# Altium footprint library SKF2.5-5V4.PcbLib: 3 footprints
Each footprint in its own frame and in the unit in brackets; x right, y up, seen from the top. Pads: shape width x height; smd on the part's side, far side on the other; paste and mask are expansions set on the pad; w line width, h text height; cw(c..) or ccw(c..) is an arc to the next point about the centre after c.
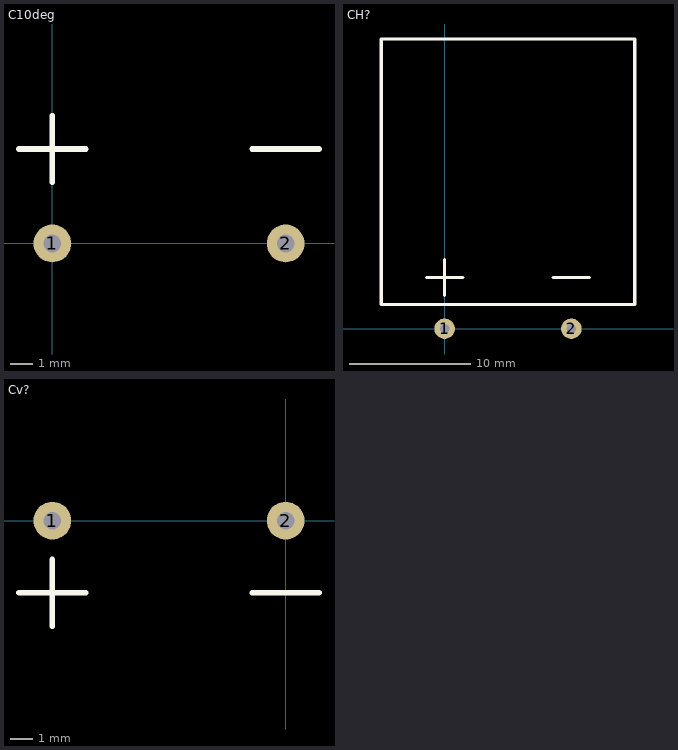
[diagram p0: the footprints below, top view; thin cyan lines are the x and y axes]

## C10deg [mm] "horizontal, 10deg rotation"
pads (2):
  round 1.7 hole 0.8: 1(0,0) 2(10.5,0)
Top Overlay:
  lines w0.254: -1.5,4.25 1.5,4.25 ; 0,2.75 0,5.75 ; 9,4.25 12,4.25
3D body "Supercap 2.5F 5.4V 10deg.STEP": height 13.99, standoff -4.5, extent -5.275,-2.85 15.725,24.847

## CH? [mm] "СКФ-2,5-5В4"
pads (2):
  round 1.7 hole 0.8: 1(0,0) 2(10.5,0)
Top Overlay:
  lines w0.254: -1.5,4.25 1.5,4.25 ; 0,2.75 0,5.75 ; 9,4.25 12,4.25 ; -5.25,2 15.75,2 15.75,24 -5.25,24 -5.25,2
3D body "Supercap 2.5F 5.4V.STEP": height 10.5, standoff -3.8, extent -5.25,-0.4 15.75,24

## Cv? [mm] "vertical orientation"
pads (2):
  round 1.7 hole 0.8: 1(-10.5,0) 2(0,0)
Top Overlay:
  lines w0.254: -12,-3.25 -9,-3.25 ; -10.5,-4.75 -10.5,-1.75 ; -1.5,-3.25 1.5,-3.25
3D body "Supercap 2.5F 5.4V_vert.x_t": height 23.5, standoff -4.5, extent -15.75,-7.3 5.25,3.2